# Altium schematic symbol library BatteryManagemnt.SchLib: 1 symbol
Pins are listed as number, name and electrical type; pins without a type are passive.

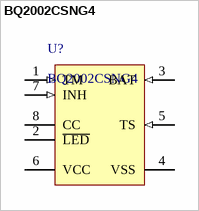
[diagram p0: symbol BQ2002CSNG4]

## BQ2002CSNG4
designator U?
NiCd / NiMH Charge Controller with Negative dV and Peak Voltage Detection Termination, 4 V, 0 to 70 degC, 8-pin SOIC (D), Green (RoHS & no Sb/Br); Manufacturer: Texas Instruments; NiMH: Y; Vin(Min)(V): 4; Over Voltage Protection: N; SubFamily: Battery Charge Management; ComponentLink1Description: Datasheet; PartNumber: BQ2002CSNG4; DatasheetVersion: SLUS136; PackageReference: D8; ComponentLink1URL: http://www.ti.com/general/docs/lit/getliterature.tsp?genericPartNumber=BQ2002C&fileType=pdf; Li-Polymer: N; Code_JEDEC: MS-012AA; Eco-Plan: Green (RoHS & no Sb/Br); Li-Ion: N; Lead Acid: N; Mounting Technology: Surface Mount; PackageDescription: 8-Pin Plastic Small Outline Integrated Circuit, 4.9 x 3.9 mm, Pitch 1.27 mm Pitch; PackageVersion: revM, Jun-2011; NiCd: Y
footprint BQ2002_A (SOIC, 8-Leads, Body 4.91x3.90mm, Pitch 1.27mm, IPC Low Density)
footprint BQ2002_B (SOIC, 8-Leads, Body 4.91x3.90mm, Pitch 1.27mm, IPC Low Density)
footprint BQ2002_C (SOIC, 8-Leads, Body 4.91x3.90mm, Pitch 1.27mm, IPC High Density)
pins: 1 TM (in) "Timer mode input. A three-level input that controls the settings for the fast charge safety timer, voltage termination mode, top-off, pulse-trickle, and voltage hold-off time.", 2 ~{LED} (hiz) "Charging output status. Open-drain output that indicates the charging status.", 3 BAT (in) "Battery input voltage. The battery voltage sense input. The input to this pin is created by a high-impedance resistor divider network connected between the positive and negative terminals of the battery.", 4 VSS (power) "System ground.", 5 TS (in) "Temperature sense input. Input for an external battery temperature monitoring thermistor.", 6 VCC (power) "Supply voltage input. 5.0V +/-20%power input.", 7 INH (in) "Charge inhibit input. When high, INH suspends the fast charge in progress. When returned low, the IC resumes operation at the point where initially suspended.", 8 CC (hiz) "Charge control output. An open-drain output used to control the charging current to the battery. CC switching to high impedance (Z) enables charging current to flow, and low to inhibit charging current. CC is modulated to (See Datasheet)"